# Altium schematic symbol library DPS368.SchLib: 1 symbol
Pins are listed as number, name and electrical type; pins without a type are passive.

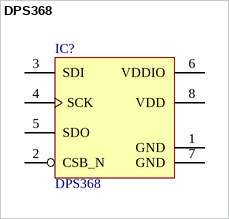
[diagram p0: symbol DPS368]

## DPS368
designator IC?
Digital Barometric Pressure Sensor for Portable Devices; Manufacturer: Infineon Technologies; Manufacturer Order Number: DPS368; PackageReference: PG-VLGA-8-2
footprint LGA8S145X65P2X4_200X250X110-V (LGA,1.45mm  col. pitch X 0.65mm row pitch,rect.;8 pin,2 columns X 4 rows,2.00mm X 2.50mm X 1.10mm H)
pins: 1 GND (power) "Ground", 2 CSB_N "Chip Select", 3 SDI "Serial Data In/Out", 4 SCK "Serial Clock", 5 SDO "Serial Data Out", 6 VDDIO (power) "Digital Supply Voltage for Digital Blocks and I/O Interface", 7 GND (power) "Ground", 8 VDD (power) "Supply Voltage for Analog Blocks"